# Altium integrated library VJ0402A5R6CXAPW1BC.IntLib: 1 symbol
Pins are listed as number, name and electrical type; pins without a type are passive.

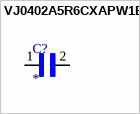
[diagram p0: symbol VJ0402A5R6CXAPW1BC]

## VJ0402A5R6CXAPW1BC
designator C?
Cap Ceramic 5.6pF 50V C0G 0.25pF SMD 0402 125Â°C Paper T/R; MP: VJ0402A5R6CXAPW1BC; MF: Vishay; Price: None; Availability: In Stock; Package: 0402 Vishay; Value: *; SnapEDA_Link: https://www.snapeda.com/parts/VJ0402A5R6CXAPW1BC/Vishay/view-part/?ref=snap; Check_prices: https://www.snapeda.com/parts/VJ0402A5R6CXAPW1BC/Vishay/view-part/?ref=eda; Purchase-URL: https://pricing.snapeda.com/search/part/VJ0402A5R6CXAPW1BC/?ref=eda
footprint CAPC1005X55N
pins: 1, 2